# Altium footprint library Actel Footprints.PcbLib: 111 footprints (part 7 of 10)
Each footprint in its own frame and in the unit in brackets; x right, y up, seen from the top. Pads: shape width x height; smd on the part's side, far side on the other; paste and mask are expansions set on the pad; w line width, h text height; cw(c..) or ccw(c..) is an arc to the next point about the centre after c.
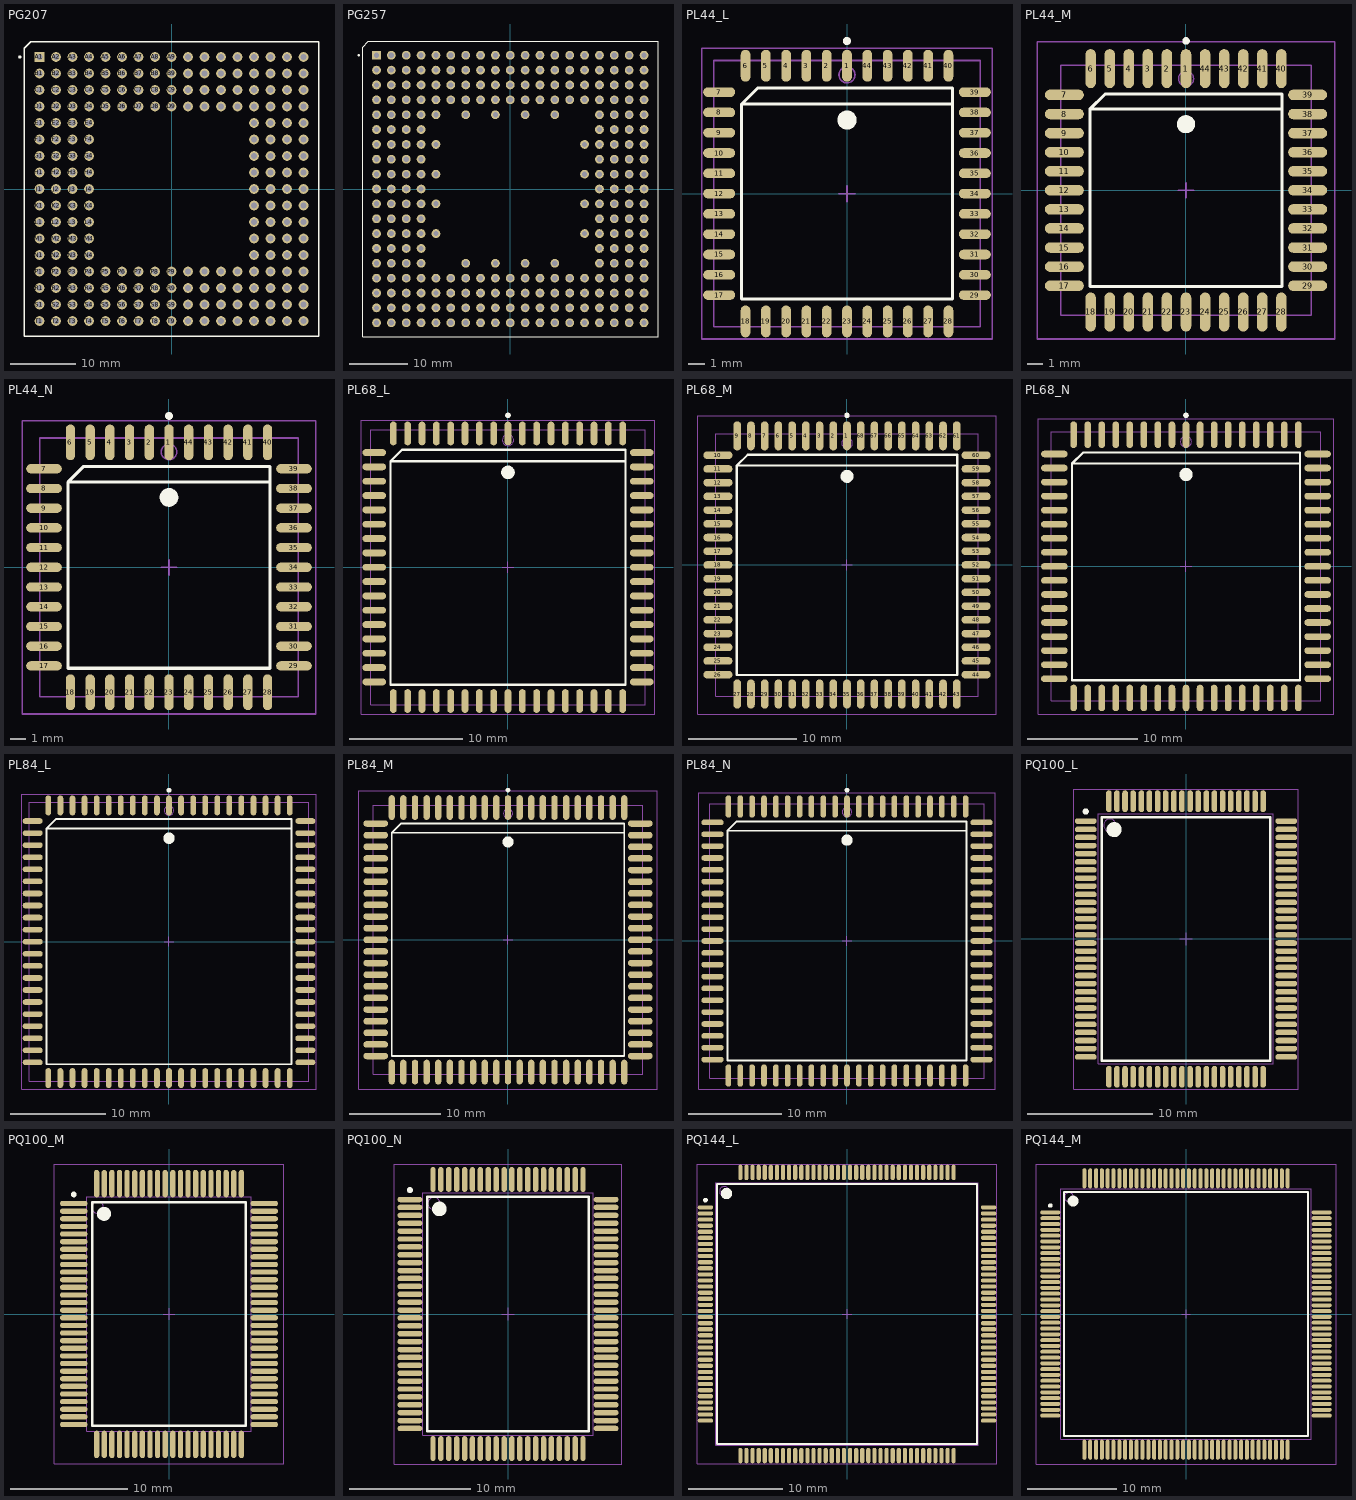
[diagram p6: the footprints below, top view; thin cyan lines are the x and y axes]

## PG207 [mm] "207-Pin Ceramic Pin Grid Array (PG207)"
height 4.6
pads (208):
  rect 1.5x1.5 hole 0.9: A1(-20.32,20.32)
  round 1.5 hole 0.9: A2(-17.78,20.32) A3(-15.24,20.32) A4(-12.7,20.32) A5(-10.16,20.32) A6(-7.62,20.32) A7(-5.08,20.32) A8(-2.54,20.32) A9(0,20.32) A10(2.54,20.32) A11(5.08,20.32) A12(7.62,20.32) A13(10.16,20.32) A14(12.7,20.32) A15(15.24,20.32) A16(17.78,20.32) A17(20.32,20.32) B1(-20.32,17.78) B2(-17.78,17.78) B3(-15.24,17.78) B4(-12.7,17.78) B5(-10.16,17.78) B6(-7.62,17.78) B7(-5.08,17.78) B8(-2.54,17.78) B9(0,17.78) B10(2.54,17.78) B11(5.08,17.78) B12(7.62,17.78) B13(10.16,17.78) B14(12.7,17.78) B15(15.24,17.78) B16(17.78,17.78) B17(20.32,17.78) C1(-20.32,15.24) C2(-17.78,15.24) C3(-15.24,15.24) C4(-12.7,15.24) C5(-10.16,15.24) C6(-7.62,15.24) C7(-5.08,15.24) C8(-2.54,15.24) C9(0,15.24) C10(2.54,15.24) C11(5.08,15.24) C12(7.62,15.24) C13(10.16,15.24) C14(12.7,15.24) C15(15.24,15.24) C16(17.78,15.24) C17(20.32,15.24) D1(-20.32,12.7) D2(-17.78,12.7) D3(-15.24,12.7) D4(-12.7,12.7) D5(-10.16,12.7) D6(-7.62,12.7) D7(-5.08,12.7) D8(-2.54,12.7) D9(0,12.7) D10(2.54,12.7) D11(5.08,12.7) D12(7.62,12.7) D13(10.16,12.7) D14(12.7,12.7) D15(15.24,12.7) D16(17.78,12.7) D17(20.32,12.7) E1(-20.32,10.16) E2(-17.78,10.16) E3(-15.24,10.16) E4(-12.7,10.16) E14(12.7,10.16) E15(15.24,10.16) E16(17.78,10.16) E17(20.32,10.16) F1(-20.32,7.62) F2(-17.78,7.62) F3(-15.24,7.62) F4(-12.7,7.62) F14(12.7,7.62) F15(15.24,7.62) F16(17.78,7.62) F17(20.32,7.62) G1(-20.32,5.08) G2(-17.78,5.08) G3(-15.24,5.08) G4(-12.7,5.08) G14(12.7,5.08) G15(15.24,5.08) G16(17.78,5.08) G17(20.32,5.08) H1(-20.32,2.54) H2(-17.78,2.54) H3(-15.24,2.54) H4(-12.7,2.54) H14(12.7,2.54) H15(15.24,2.54) H16(17.78,2.54) H17(20.32,2.54) J1(-20.32,0) J2(-17.78,0) J3(-15.24,0) J4(-12.7,0) J14(12.7,0) J15(15.24,0) J16(17.78,0) J17(20.32,0) K1(-20.32,-2.54) K2(-17.78,-2.54) K3(-15.24,-2.54) K4(-12.7,-2.54) K14(12.7,-2.54) K15(15.24,-2.54) K16(17.78,-2.54) K17(20.32,-2.54) L1(-20.32,-5.08) L2(-17.78,-5.08) L3(-15.24,-5.08) L4(-12.7,-5.08) L14(12.7,-5.08) L15(15.24,-5.08) L16(17.78,-5.08) L17(20.32,-5.08) M1(-20.32,-7.62) M2(-17.78,-7.62) M3(-15.24,-7.62) M4(-12.7,-7.62) M14(12.7,-7.62) M15(15.24,-7.62) M16(17.78,-7.62) M17(20.32,-7.62) N1(-20.32,-10.16) N2(-17.78,-10.16) N3(-15.24,-10.16) N4(-12.7,-10.16) N14(12.7,-10.16) N15(15.24,-10.16) N16(17.78,-10.16) N17(20.32,-10.16) P1(-20.32,-12.7) P2(-17.78,-12.7) P3(-15.24,-12.7) P4(-12.7,-12.7) P5(-10.16,-12.7) P6(-7.62,-12.7) P7(-5.08,-12.7) P8(-2.54,-12.7) P9(0,-12.7) P10(2.54,-12.7) P11(5.08,-12.7) P12(7.62,-12.7) P13(10.16,-12.7) P14(12.7,-12.7) P15(15.24,-12.7) P16(17.78,-12.7) P17(20.32,-12.7) R1(-20.32,-15.24) R2(-17.78,-15.24) R3(-15.24,-15.24) R4(-12.7,-15.24) R5(-10.16,-15.24) R6(-7.62,-15.24) R7(-5.08,-15.24) R8(-2.54,-15.24) R9(0,-15.24) R10(2.54,-15.24) R11(5.08,-15.24) R12(7.62,-15.24) R13(10.16,-15.24) R14(12.7,-15.24) R15(15.24,-15.24) R16(17.78,-15.24) R17(20.32,-15.24) S1(-20.32,-17.78) S2(-17.78,-17.78) S3(-15.24,-17.78) S4(-12.7,-17.78) S5(-10.16,-17.78) S6(-7.62,-17.78) S7(-5.08,-17.78) S8(-2.54,-17.78) S9(0,-17.78) S10(2.54,-17.78) S11(5.08,-17.78) S12(7.62,-17.78) S13(10.16,-17.78) S14(12.7,-17.78) S15(15.24,-17.78) S16(17.78,-17.78) S17(20.32,-17.78) T1(-20.32,-20.32) T2(-17.78,-20.32) T3(-15.24,-20.32) T4(-12.7,-20.32) T5(-10.16,-20.32) T6(-7.62,-20.32) T7(-5.08,-20.32) T8(-2.54,-20.32) T9(0,-20.32) T10(2.54,-20.32) T11(5.08,-20.32) T12(7.62,-20.32) T13(10.16,-20.32) T14(12.7,-20.32) T15(15.24,-20.32) T16(17.78,-20.32) T17(20.32,-20.32)
Top Overlay:
  circle w0.25: c-23.35,20.32 r0.125
  lines w0.2: -22.7,-22.7 22.7,-22.7 22.7,22.7 -21.7,22.7 -22.7,21.7 -22.7,-22.7

## PG257 [mm] "257-Pin Ceramic Pin Grid Array (PG257)"
height 4.37
pads (257):
  rect 1.5x1.5 hole 0.9: A1(-22.86,22.86)
  round 1.5 hole 0.9: A2(-20.32,22.86) A3(-17.78,22.86) A4(-15.24,22.86) A5(-12.7,22.86) A6(-10.16,22.86) A7(-7.62,22.86) A8(-5.08,22.86) A9(-2.54,22.86) A10(0,22.86) A11(2.54,22.86) A12(5.08,22.86) A13(7.62,22.86) A14(10.16,22.86) A15(12.7,22.86) A16(15.24,22.86) A17(17.78,22.86) A18(20.32,22.86) A19(22.86,22.86) B1(-22.86,20.32) B2(-20.32,20.32) B3(-17.78,20.32) B4(-15.24,20.32) B5(-12.7,20.32) B6(-10.16,20.32) B7(-7.62,20.32) B8(-5.08,20.32) B9(-2.54,20.32) B10(0,20.32) B11(2.54,20.32) B12(5.08,20.32) B13(7.62,20.32) B14(10.16,20.32) B15(12.7,20.32) B16(15.24,20.32) B17(17.78,20.32) B18(20.32,20.32) B19(22.86,20.32) C1(-22.86,17.78) C2(-20.32,17.78) C3(-17.78,17.78) C4(-15.24,17.78) C5(-12.7,17.78) C6(-10.16,17.78) C7(-7.62,17.78) C8(-5.08,17.78) C9(-2.54,17.78) C10(0,17.78) C11(2.54,17.78) C12(5.08,17.78) C13(7.62,17.78) C14(10.16,17.78) C15(12.7,17.78) C16(15.24,17.78) C17(17.78,17.78) C18(20.32,17.78) C19(22.86,17.78) D1(-22.86,15.24) D2(-20.32,15.24) D3(-17.78,15.24) D4(-15.24,15.24) D5(-12.7,15.24) D6(-10.16,15.24) D7(-7.62,15.24) D8(-5.08,15.24) D9(-2.54,15.24) D10(0,15.24) D11(2.54,15.24) D12(5.08,15.24) D13(7.62,15.24) D14(10.16,15.24) D15(12.7,15.24) D16(15.24,15.24) D17(17.78,15.24) D18(20.32,15.24) D19(22.86,15.24) E1(-22.86,12.7) E2(-20.32,12.7) E3(-17.78,12.7) E4(-15.24,12.7) E5(-12.7,12.7) E7(-7.62,12.7) E9(-2.54,12.7) E11(2.54,12.7) E13(7.62,12.7) E16(15.24,12.7) E17(17.78,12.7) E18(20.32,12.7) E19(22.86,12.7) F1(-22.86,10.16) F2(-20.32,10.16) F3(-17.78,10.16) F4(-15.24,10.16) F16(15.24,10.16) F17(17.78,10.16) F18(20.32,10.16) F19(22.86,10.16) G1(-22.86,7.62) G2(-20.32,7.62) G3(-17.78,7.62) G4(-15.24,7.62) G5(-12.7,7.62) G15(12.7,7.62) G16(15.24,7.62) G17(17.78,7.62) G18(20.32,7.62) G19(22.86,7.62) H1(-22.86,5.08) H2(-20.32,5.08) H3(-17.78,5.08) H4(-15.24,5.08) H16(15.24,5.08) H17(17.78,5.08) H18(20.32,5.08) H19(22.86,5.08) J1(-22.86,2.54) J2(-20.32,2.54) J3(-17.78,2.54) J4(-15.24,2.54) J5(-12.7,2.54) J15(12.7,2.54) J16(15.24,2.54) J17(17.78,2.54) J18(20.32,2.54) J19(22.86,2.54) K1(-22.86,0) K2(-20.32,0) K3(-17.78,0) K4(-15.24,0) K16(15.24,0) K17(17.78,0) K18(20.32,0) K19(22.86,0) L1(-22.86,-2.54) L2(-20.32,-2.54) L3(-17.78,-2.54) L4(-15.24,-2.54) L5(-12.7,-2.54) L15(12.7,-2.54) L16(15.24,-2.54) L17(17.78,-2.54) L18(20.32,-2.54) L19(22.86,-2.54) M1(-22.86,-5.08) M2(-20.32,-5.08) M3(-17.78,-5.08) M4(-15.24,-5.08) M16(15.24,-5.08) M17(17.78,-5.08) M18(20.32,-5.08) M19(22.86,-5.08) N1(-22.86,-7.62) N2(-20.32,-7.62) N3(-17.78,-7.62) N4(-15.24,-7.62) N5(-12.7,-7.62) N15(12.7,-7.62) N16(15.24,-7.62) N17(17.78,-7.62) N18(20.32,-7.62) N19(22.86,-7.62) P1(-22.86,-10.16) P2(-20.32,-10.16) P3(-17.78,-10.16) P4(-15.24,-10.16) P16(15.24,-10.16) P17(17.78,-10.16) P18(20.32,-10.16) P19(22.86,-10.16) R1(-22.86,-12.7) R2(-20.32,-12.7) R3(-17.78,-12.7) R4(-15.24,-12.7) R7(-7.62,-12.7) R9(-2.54,-12.7) R11(2.54,-12.7) R13(7.62,-12.7) R16(15.24,-12.7) R17(17.78,-12.7) R18(20.32,-12.7) R19(22.86,-12.7) T1(-22.86,-15.24) T2(-20.32,-15.24) T3(-17.78,-15.24) T4(-15.24,-15.24) T5(-12.7,-15.24) T6(-10.16,-15.24) T7(-7.62,-15.24) T8(-5.08,-15.24) T9(-2.54,-15.24) T10(0,-15.24) T11(2.54,-15.24) T12(5.08,-15.24) T13(7.62,-15.24) T14(10.16,-15.24) T15(12.7,-15.24) T16(15.24,-15.24) T17(17.78,-15.24) T18(20.32,-15.24) T19(22.86,-15.24) V1(-22.86,-17.78) V2(-20.32,-17.78) V3(-17.78,-17.78) V4(-15.24,-17.78) V5(-12.7,-17.78) V6(-10.16,-17.78) V7(-7.62,-17.78) V8(-5.08,-17.78) V9(-2.54,-17.78) V10(0,-17.78) V11(2.54,-17.78) V12(5.08,-17.78) V13(7.62,-17.78) V14(10.16,-17.78) V15(12.7,-17.78) V16(15.24,-17.78) V17(17.78,-17.78) V18(20.32,-17.78) V19(22.86,-17.78) X1(-22.86,-20.32) X2(-20.32,-20.32) X3(-17.78,-20.32) X4(-15.24,-20.32) X5(-12.7,-20.32) X6(-10.16,-20.32) X7(-7.62,-20.32) X8(-5.08,-20.32) X9(-2.54,-20.32) X10(0,-20.32) X11(2.54,-20.32) X12(5.08,-20.32) X13(7.62,-20.32) X14(10.16,-20.32) X15(12.7,-20.32) X16(15.24,-20.32) X17(17.78,-20.32) X18(20.32,-20.32) X19(22.86,-20.32) Y1(-22.86,-22.86) Y2(-20.32,-22.86) Y3(-17.78,-22.86) Y4(-15.24,-22.86) Y5(-12.7,-22.86) Y6(-10.16,-22.86) Y7(-7.62,-22.86) Y8(-5.08,-22.86) Y9(-2.54,-22.86) Y10(0,-22.86) Y11(2.54,-22.86) Y12(5.08,-22.86) Y13(7.62,-22.86) Y14(10.16,-22.86) Y15(12.7,-22.86) Y16(15.24,-22.86) Y17(17.78,-22.86) Y18(20.32,-22.86) Y19(22.86,-22.86)
Top Overlay:
  circle w0.25: c-25.9,22.86 r0.125
  lines w0.2: -25.25,-25.25 -25.25,24.25 -24.25,25.25 25.25,25.25 25.25,-25.25 -25.25,-25.25

## PL44_L [mm] "44-Pin Plastic Leaded Chip Carrier (PL44), IPC High Density"
height 4.58
pads (44):
  oval 0.6x2 smd: 1(0,8) 2(-1.27,8) 3(-2.54,8) 4(-3.81,8) 5(-5.08,8) 6(-6.35,8) 18(-6.35,-8) 19(-5.08,-8) 20(-3.81,-8) 21(-2.54,-8) 22(-1.27,-8) 23(0,-8) 24(1.27,-8) 25(2.54,-8) 26(3.81,-8) 27(5.08,-8) 28(6.35,-8) 40(6.35,8) 41(5.08,8) 42(3.81,8) 43(2.54,8) 44(1.27,8)
  oval 2x0.6 smd: 7(-8,6.35) 8(-8,5.08) 9(-8,3.81) 10(-8,2.54) 11(-8,1.27) 12(-8,0) 13(-8,-1.27) 14(-8,-2.54) 15(-8,-3.81) 16(-8,-5.08) 17(-8,-6.35) 29(8,-6.35) 30(8,-5.08) 31(8,-3.81) 32(8,-2.54) 33(8,-1.27) 34(8,0) 35(8,1.27) 36(8,2.54) 37(8,3.81) 38(8,5.08) 39(8,6.35)
Top Overlay:
  circle w0.25: c0,9.55 r0.125
  circle w0.6: c0,4.6 r0.3
  lines w0.2: 6.6,5.6 -6.6,5.6 ; -6.6,5.6 -5.6,6.6 6.6,6.6 6.6,-6.6 -6.6,-6.6 -6.6,5.6
Mechanical 13:
  circle w0.1: c0,7.43 r0.5
  lines w0.1: -8.33,-8.33 -8.33,8.33 8.33,8.33 8.33,-8.33 -8.33,-8.33
Mechanical 15:
  lines w0.1: -0.5,0 0.5,0 ; 0,-0.5 0,0.5 ; -9.1,-9.1 -9.1,9.1 9.1,9.1 9.1,-9.1 -9.1,-9.1
3D body: height 4.58, standoff 0, extent -8.33,-8.33 8.33,8.33

## PL44_M [mm] "44-Pin Plastic Leaded Chip Carrier (PL44), IPC Low Density"
height 4.58
pads (44):
  oval 0.7x2.6 smd: 1(0,8.1) 2(-1.27,8.1) 3(-2.54,8.1) 4(-3.81,8.1) 5(-5.08,8.1) 6(-6.35,8.1) 18(-6.35,-8.1) 19(-5.08,-8.1) 20(-3.81,-8.1) 21(-2.54,-8.1) 22(-1.27,-8.1) 23(0,-8.1) 24(1.27,-8.1) 25(2.54,-8.1) 26(3.81,-8.1) 27(5.08,-8.1) 28(6.35,-8.1) 40(6.35,8.1) 41(5.08,8.1) 42(3.81,8.1) 43(2.54,8.1) 44(1.27,8.1)
  oval 2.6x0.7 smd: 7(-8.1,6.35) 8(-8.1,5.08) 9(-8.1,3.81) 10(-8.1,2.54) 11(-8.1,1.27) 12(-8.1,0) 13(-8.1,-1.27) 14(-8.1,-2.54) 15(-8.1,-3.81) 16(-8.1,-5.08) 17(-8.1,-6.35) 29(8.1,-6.35) 30(8.1,-5.08) 31(8.1,-3.81) 32(8.1,-2.54) 33(8.1,-1.27) 34(8.1,0) 35(8.1,1.27) 36(8.1,2.54) 37(8.1,3.81) 38(8.1,5.08) 39(8.1,6.35)
Top Overlay:
  circle w0.25: c0,9.95 r0.125
  circle w0.6: c0,4.4 r0.3
  lines w0.2: 6.4,5.4 -6.4,5.4 ; -6.4,5.4 -5.4,6.4 6.4,6.4 6.4,-6.4 -6.4,-6.4 -6.4,5.4
Mechanical 13:
  circle w0.1: c0,7.43 r0.5
  lines w0.1: -8.33,-8.33 -8.33,8.33 8.33,8.33 8.33,-8.33 -8.33,-8.33
Mechanical 15:
  lines w0.1: -0.5,0 0.5,0 ; 0,-0.5 0,0.5 ; -9.9,-9.9 -9.9,9.9 9.9,9.9 9.9,-9.9 -9.9,-9.9
3D body: height 4.58, standoff 0, extent -8.33,-8.33 8.33,8.33

## PL44_N [mm] "44-Pin Plastic Leaded Chip Carrier (PL44), IPC Medium Density"
height 4.58
pads (44):
  oval 0.6x2.3 smd: 1(0,8.05) 2(-1.27,8.05) 3(-2.54,8.05) 4(-3.81,8.05) 5(-5.08,8.05) 6(-6.35,8.05) 18(-6.35,-8.05) 19(-5.08,-8.05) 20(-3.81,-8.05) 21(-2.54,-8.05) 22(-1.27,-8.05) 23(0,-8.05) 24(1.27,-8.05) 25(2.54,-8.05) 26(3.81,-8.05) 27(5.08,-8.05) 28(6.35,-8.05) 40(6.35,8.05) 41(5.08,8.05) 42(3.81,8.05) 43(2.54,8.05) 44(1.27,8.05)
  oval 2.3x0.6 smd: 7(-8.05,6.35) 8(-8.05,5.08) 9(-8.05,3.81) 10(-8.05,2.54) 11(-8.05,1.27) 12(-8.05,0) 13(-8.05,-1.27) 14(-8.05,-2.54) 15(-8.05,-3.81) 16(-8.05,-5.08) 17(-8.05,-6.35) 29(8.05,-6.35) 30(8.05,-5.08) 31(8.05,-3.81) 32(8.05,-2.54) 33(8.05,-1.27) 34(8.05,0) 35(8.05,1.27) 36(8.05,2.54) 37(8.05,3.81) 38(8.05,5.08) 39(8.05,6.35)
Top Overlay:
  circle w0.25: c0,9.75 r0.125
  circle w0.6: c0,4.5 r0.3
  lines w0.2: 6.5,5.5 -6.5,5.5 ; -6.5,5.5 -5.5,6.5 6.5,6.5 6.5,-6.5 -6.5,-6.5 -6.5,5.5
Mechanical 13:
  circle w0.1: c0,7.43 r0.5
  lines w0.1: -8.33,-8.33 -8.33,8.33 8.33,8.33 8.33,-8.33 -8.33,-8.33
Mechanical 15:
  lines w0.1: -0.5,0 0.5,0 ; 0,-0.5 0,0.5 ; -9.45,-9.45 -9.45,9.45 9.45,9.45 9.45,-9.45 -9.45,-9.45
3D body: height 4.58, standoff 0, extent -8.33,-8.33 8.33,8.33

## PL68_L [mm] "68-Pin Plastic Leaded Chip Carrier (PL68), IPC High Density"
height 4.58
pads (68):
  oval 0.6x2.1 smd: 1(0,11.85) 2(-1.27,11.85) 3(-2.54,11.85) 4(-3.81,11.85) 5(-5.08,11.85) 6(-6.35,11.85) 7(-7.62,11.85) 8(-8.89,11.85) 9(-10.16,11.85) 27(-10.16,-11.85) 28(-8.89,-11.85) 29(-7.62,-11.85) 30(-6.35,-11.85) 31(-5.08,-11.85) 32(-3.81,-11.85) 33(-2.54,-11.85) 34(-1.27,-11.85) 35(0,-11.85) 36(1.27,-11.85) 37(2.54,-11.85) 38(3.81,-11.85) 39(5.08,-11.85) 40(6.35,-11.85) 41(7.62,-11.85) 42(8.89,-11.85) 43(10.16,-11.85) 61(10.16,11.85) 62(8.89,11.85) 63(7.62,11.85) 64(6.35,11.85) 65(5.08,11.85) 66(3.81,11.85) 67(2.54,11.85) 68(1.27,11.85)
  oval 2.1x0.6 smd: 10(-11.85,10.16) 11(-11.85,8.89) 12(-11.85,7.62) 13(-11.85,6.35) 14(-11.85,5.08) 15(-11.85,3.81) 16(-11.85,2.54) 17(-11.85,1.27) 18(-11.85,0) 19(-11.85,-1.27) 20(-11.85,-2.54) 21(-11.85,-3.81) 22(-11.85,-5.08) 23(-11.85,-6.35) 24(-11.85,-7.62) 25(-11.85,-8.89) 26(-11.85,-10.16) 44(11.85,-10.16) 45(11.85,-8.89) 46(11.85,-7.62) 47(11.85,-6.35) 48(11.85,-5.08) 49(11.85,-3.81) 50(11.85,-2.54) 51(11.85,-1.27) 52(11.85,0) 53(11.85,1.27) 54(11.85,2.54) 55(11.85,3.81) 56(11.85,5.08) 57(11.85,6.35) 58(11.85,7.62) 59(11.85,8.89) 60(11.85,10.16)
Top Overlay:
  circle w0.25: c0,13.45 r0.125
  circle w0.6: c0,8.4 r0.3
  lines w0.2: 10.4,9.4 -10.4,9.4 ; -10.4,9.4 -9.4,10.4 10.4,10.4 10.4,-10.4 -10.4,-10.4 -10.4,9.4
Mechanical 13:
  circle w0.1: c0,11.265 r0.5
  lines w0.1: -12.165,-12.165 -12.165,12.165 12.165,12.165 12.165,-12.165 -12.165,-12.165
Mechanical 15:
  lines w0.1: -0.5,0 0.5,0 ; 0,-0.5 0,0.5 ; -13,-13 -13,13 13,13 13,-13 -13,-13
3D body: height 4.58, standoff 0, extent -12.165,-12.165 12.165,12.165

## PL68_M [mm] "68-Pin Plastic Leaded Chip Carrier (PL68), IPC Low Density"
height 4.58
pads (68):
  oval 0.7x2.7 smd: 1(0,11.95) 2(-1.27,11.95) 3(-2.54,11.95) 4(-3.81,11.95) 5(-5.08,11.95) 6(-6.35,11.95) 7(-7.62,11.95) 8(-8.89,11.95) 9(-10.16,11.95) 27(-10.16,-11.95) 28(-8.89,-11.95) 29(-7.62,-11.95) 30(-6.35,-11.95) 31(-5.08,-11.95) 32(-3.81,-11.95) 33(-2.54,-11.95) 34(-1.27,-11.95) 35(0,-11.95) 36(1.27,-11.95) 37(2.54,-11.95) 38(3.81,-11.95) 39(5.08,-11.95) 40(6.35,-11.95) 41(7.62,-11.95) 42(8.89,-11.95) 43(10.16,-11.95) 61(10.16,11.95) 62(8.89,11.95) 63(7.62,11.95) 64(6.35,11.95) 65(5.08,11.95) 66(3.81,11.95) 67(2.54,11.95) 68(1.27,11.95)
  oval 2.7x0.7 smd: 10(-11.95,10.16) 11(-11.95,8.89) 12(-11.95,7.62) 13(-11.95,6.35) 14(-11.95,5.08) 15(-11.95,3.81) 16(-11.95,2.54) 17(-11.95,1.27) 18(-11.95,0) 19(-11.95,-1.27) 20(-11.95,-2.54) 21(-11.95,-3.81) 22(-11.95,-5.08) 23(-11.95,-6.35) 24(-11.95,-7.62) 25(-11.95,-8.89) 26(-11.95,-10.16) 44(11.95,-10.16) 45(11.95,-8.89) 46(11.95,-7.62) 47(11.95,-6.35) 48(11.95,-5.08) 49(11.95,-3.81) 50(11.95,-2.54) 51(11.95,-1.27) 52(11.95,0) 53(11.95,1.27) 54(11.95,2.54) 55(11.95,3.81) 56(11.95,5.08) 57(11.95,6.35) 58(11.95,7.62) 59(11.95,8.89) 60(11.95,10.16)
Top Overlay:
  circle w0.25: c0,13.85 r0.125
  circle w0.6: c0,8.2 r0.3
  lines w0.2: 10.2,9.2 -10.2,9.2 ; -10.2,9.2 -9.2,10.2 10.2,10.2 10.2,-10.2 -10.2,-10.2 -10.2,9.2
Mechanical 13:
  circle w0.1: c0,11.265 r0.5
  lines w0.1: -12.165,-12.165 -12.165,12.165 12.165,12.165 12.165,-12.165 -12.165,-12.165
Mechanical 15:
  lines w0.1: -0.5,0 0.5,0 ; 0,-0.5 0,0.5 ; -13.8,-13.8 -13.8,13.8 13.8,13.8 13.8,-13.8 -13.8,-13.8
3D body: height 4.58, standoff 0, extent -12.165,-12.165 12.165,12.165

## PL68_N [mm] "68-Pin Plastic Leaded Chip Carrier (PL68), IPC Medium Density"
height 4.58
pads (68):
  oval 0.6x2.4 smd: 1(0,11.9) 2(-1.27,11.9) 3(-2.54,11.9) 4(-3.81,11.9) 5(-5.08,11.9) 6(-6.35,11.9) 7(-7.62,11.9) 8(-8.89,11.9) 9(-10.16,11.9) 27(-10.16,-11.9) 28(-8.89,-11.9) 29(-7.62,-11.9) 30(-6.35,-11.9) 31(-5.08,-11.9) 32(-3.81,-11.9) 33(-2.54,-11.9) 34(-1.27,-11.9) 35(0,-11.9) 36(1.27,-11.9) 37(2.54,-11.9) 38(3.81,-11.9) 39(5.08,-11.9) 40(6.35,-11.9) 41(7.62,-11.9) 42(8.89,-11.9) 43(10.16,-11.9) 61(10.16,11.9) 62(8.89,11.9) 63(7.62,11.9) 64(6.35,11.9) 65(5.08,11.9) 66(3.81,11.9) 67(2.54,11.9) 68(1.27,11.9)
  oval 2.4x0.6 smd: 10(-11.9,10.16) 11(-11.9,8.89) 12(-11.9,7.62) 13(-11.9,6.35) 14(-11.9,5.08) 15(-11.9,3.81) 16(-11.9,2.54) 17(-11.9,1.27) 18(-11.9,0) 19(-11.9,-1.27) 20(-11.9,-2.54) 21(-11.9,-3.81) 22(-11.9,-5.08) 23(-11.9,-6.35) 24(-11.9,-7.62) 25(-11.9,-8.89) 26(-11.9,-10.16) 44(11.9,-10.16) 45(11.9,-8.89) 46(11.9,-7.62) 47(11.9,-6.35) 48(11.9,-5.08) 49(11.9,-3.81) 50(11.9,-2.54) 51(11.9,-1.27) 52(11.9,0) 53(11.9,1.27) 54(11.9,2.54) 55(11.9,3.81) 56(11.9,5.08) 57(11.9,6.35) 58(11.9,7.62) 59(11.9,8.89) 60(11.9,10.16)
Top Overlay:
  circle w0.25: c0,13.65 r0.125
  circle w0.6: c0,8.3 r0.3
  lines w0.2: 10.3,9.3 -10.3,9.3 ; -10.3,9.3 -9.3,10.3 10.3,10.3 10.3,-10.3 -10.3,-10.3 -10.3,9.3
Mechanical 13:
  circle w0.1: c0,11.265 r0.5
  lines w0.1: -12.165,-12.165 -12.165,12.165 12.165,12.165 12.165,-12.165 -12.165,-12.165
Mechanical 15:
  lines w0.1: -0.5,0 0.5,0 ; 0,-0.5 0,0.5 ; -13.35,-13.35 -13.35,13.35 13.35,13.35 13.35,-13.35 -13.35,-13.35
3D body: height 4.58, standoff 0, extent -12.165,-12.165 12.165,12.165

## PL84_L [mm] "84-Pin Plastic Leaded Chip Carrier (PL84), IPC High Density"
height 4.58
pads (84):
  oval 0.6x2.1 smd: 1(0,14.35) 2(-1.27,14.35) 3(-2.54,14.35) 4(-3.81,14.35) 5(-5.08,14.35) 6(-6.35,14.35) 7(-7.62,14.35) 8(-8.89,14.35) 9(-10.16,14.35) 10(-11.43,14.35) 11(-12.7,14.35) 33(-12.7,-14.35) 34(-11.43,-14.35) 35(-10.16,-14.35) 36(-8.89,-14.35) 37(-7.62,-14.35) 38(-6.35,-14.35) 39(-5.08,-14.35) 40(-3.81,-14.35) 41(-2.54,-14.35) 42(-1.27,-14.35) 43(0,-14.35) 44(1.27,-14.35) 45(2.54,-14.35) 46(3.81,-14.35) 47(5.08,-14.35) 48(6.35,-14.35) 49(7.62,-14.35) 50(8.89,-14.35) 51(10.16,-14.35) 52(11.43,-14.35) 53(12.7,-14.35) 75(12.7,14.35) 76(11.43,14.35) 77(10.16,14.35) 78(8.89,14.35) 79(7.62,14.35) 80(6.35,14.35) 81(5.08,14.35) 82(3.81,14.35) 83(2.54,14.35) 84(1.27,14.35)
  oval 2.1x0.6 smd: 12(-14.35,12.7) 13(-14.35,11.43) 14(-14.35,10.16) 15(-14.35,8.89) 16(-14.35,7.62) 17(-14.35,6.35) 18(-14.35,5.08) 19(-14.35,3.81) 20(-14.35,2.54) 21(-14.35,1.27) 22(-14.35,0) 23(-14.35,-1.27) 24(-14.35,-2.54) 25(-14.35,-3.81) 26(-14.35,-5.08) 27(-14.35,-6.35) 28(-14.35,-7.62) 29(-14.35,-8.89) 30(-14.35,-10.16) 31(-14.35,-11.43) 32(-14.35,-12.7) 54(14.35,-12.7) 55(14.35,-11.43) 56(14.35,-10.16) 57(14.35,-8.89) 58(14.35,-7.62) 59(14.35,-6.35) 60(14.35,-5.08) 61(14.35,-3.81) 62(14.35,-2.54) 63(14.35,-1.27) 64(14.35,0) 65(14.35,1.27) 66(14.35,2.54) 67(14.35,3.81) 68(14.35,5.08) 69(14.35,6.35) 70(14.35,7.62) 71(14.35,8.89) 72(14.35,10.16) 73(14.35,11.43) 74(14.35,12.7)
Top Overlay:
  circle w0.25: c0,15.95 r0.125
  circle w0.6: c0,10.9 r0.3
  lines w0.2: 12.9,11.9 -12.9,11.9 ; -12.9,11.9 -11.9,12.9 12.9,12.9 12.9,-12.9 -12.9,-12.9 -12.9,11.9
Mechanical 13:
  circle w0.1: c0,13.805 r0.5
  lines w0.1: -14.705,-14.705 -14.705,14.705 14.705,14.705 14.705,-14.705 -14.705,-14.705
Mechanical 15:
  lines w0.1: -0.5,0 0.5,0 ; 0,-0.5 0,0.5 ; -15.5,-15.5 -15.5,15.5 15.5,15.5 15.5,-15.5 -15.5,-15.5
3D body: height 4.58, standoff 0, extent -14.705,-14.705 14.705,14.705

## PL84_M [mm] "84-Pin Plastic Leaded Chip Carrier (PL84), IPC Low Density"
height 4.58
pads (84):
  oval 0.7x2.7 smd: 1(0,14.45) 2(-1.27,14.45) 3(-2.54,14.45) 4(-3.81,14.45) 5(-5.08,14.45) 6(-6.35,14.45) 7(-7.62,14.45) 8(-8.89,14.45) 9(-10.16,14.45) 10(-11.43,14.45) 11(-12.7,14.45) 33(-12.7,-14.45) 34(-11.43,-14.45) 35(-10.16,-14.45) 36(-8.89,-14.45) 37(-7.62,-14.45) 38(-6.35,-14.45) 39(-5.08,-14.45) 40(-3.81,-14.45) 41(-2.54,-14.45) 42(-1.27,-14.45) 43(0,-14.45) 44(1.27,-14.45) 45(2.54,-14.45) 46(3.81,-14.45) 47(5.08,-14.45) 48(6.35,-14.45) 49(7.62,-14.45) 50(8.89,-14.45) 51(10.16,-14.45) 52(11.43,-14.45) 53(12.7,-14.45) 75(12.7,14.45) 76(11.43,14.45) 77(10.16,14.45) 78(8.89,14.45) 79(7.62,14.45) 80(6.35,14.45) 81(5.08,14.45) 82(3.81,14.45) 83(2.54,14.45) 84(1.27,14.45)
  oval 2.7x0.7 smd: 12(-14.45,12.7) 13(-14.45,11.43) 14(-14.45,10.16) 15(-14.45,8.89) 16(-14.45,7.62) 17(-14.45,6.35) 18(-14.45,5.08) 19(-14.45,3.81) 20(-14.45,2.54) 21(-14.45,1.27) 22(-14.45,0) 23(-14.45,-1.27) 24(-14.45,-2.54) 25(-14.45,-3.81) 26(-14.45,-5.08) 27(-14.45,-6.35) 28(-14.45,-7.62) 29(-14.45,-8.89) 30(-14.45,-10.16) 31(-14.45,-11.43) 32(-14.45,-12.7) 54(14.45,-12.7) 55(14.45,-11.43) 56(14.45,-10.16) 57(14.45,-8.89) 58(14.45,-7.62) 59(14.45,-6.35) 60(14.45,-5.08) 61(14.45,-3.81) 62(14.45,-2.54) 63(14.45,-1.27) 64(14.45,0) 65(14.45,1.27) 66(14.45,2.54) 67(14.45,3.81) 68(14.45,5.08) 69(14.45,6.35) 70(14.45,7.62) 71(14.45,8.89) 72(14.45,10.16) 73(14.45,11.43) 74(14.45,12.7)
Top Overlay:
  circle w0.25: c0,16.35 r0.125
  circle w0.6: c0,10.7 r0.3
  lines w0.2: 12.7,11.7 -12.7,11.7 ; -12.7,11.7 -11.7,12.7 12.7,12.7 12.7,-12.7 -12.7,-12.7 -12.7,11.7
Mechanical 13:
  circle w0.1: c0,13.805 r0.5
  lines w0.1: -14.705,-14.705 -14.705,14.705 14.705,14.705 14.705,-14.705 -14.705,-14.705
Mechanical 15:
  lines w0.1: -0.5,0 0.5,0 ; 0,-0.5 0,0.5 ; -16.3,-16.3 -16.3,16.3 16.3,16.3 16.3,-16.3 -16.3,-16.3
3D body: height 4.58, standoff 0, extent -14.705,-14.705 14.705,14.705

## PL84_N [mm] "84-Pin Plastic Leaded Chip Carrier (PL84), IPC Medium Density"
height 4.58
pads (84):
  oval 0.6x2.4 smd: 1(0,14.4) 2(-1.27,14.4) 3(-2.54,14.4) 4(-3.81,14.4) 5(-5.08,14.4) 6(-6.35,14.4) 7(-7.62,14.4) 8(-8.89,14.4) 9(-10.16,14.4) 10(-11.43,14.4) 11(-12.7,14.4) 33(-12.7,-14.4) 34(-11.43,-14.4) 35(-10.16,-14.4) 36(-8.89,-14.4) 37(-7.62,-14.4) 38(-6.35,-14.4) 39(-5.08,-14.4) 40(-3.81,-14.4) 41(-2.54,-14.4) 42(-1.27,-14.4) 43(0,-14.4) 44(1.27,-14.4) 45(2.54,-14.4) 46(3.81,-14.4) 47(5.08,-14.4) 48(6.35,-14.4) 49(7.62,-14.4) 50(8.89,-14.4) 51(10.16,-14.4) 52(11.43,-14.4) 53(12.7,-14.4) 75(12.7,14.4) 76(11.43,14.4) 77(10.16,14.4) 78(8.89,14.4) 79(7.62,14.4) 80(6.35,14.4) 81(5.08,14.4) 82(3.81,14.4) 83(2.54,14.4) 84(1.27,14.4)
  oval 2.4x0.6 smd: 12(-14.4,12.7) 13(-14.4,11.43) 14(-14.4,10.16) 15(-14.4,8.89) 16(-14.4,7.62) 17(-14.4,6.35) 18(-14.4,5.08) 19(-14.4,3.81) 20(-14.4,2.54) 21(-14.4,1.27) 22(-14.4,0) 23(-14.4,-1.27) 24(-14.4,-2.54) 25(-14.4,-3.81) 26(-14.4,-5.08) 27(-14.4,-6.35) 28(-14.4,-7.62) 29(-14.4,-8.89) 30(-14.4,-10.16) 31(-14.4,-11.43) 32(-14.4,-12.7) 54(14.4,-12.7) 55(14.4,-11.43) 56(14.4,-10.16) 57(14.4,-8.89) 58(14.4,-7.62) 59(14.4,-6.35) 60(14.4,-5.08) 61(14.4,-3.81) 62(14.4,-2.54) 63(14.4,-1.27) 64(14.4,0) 65(14.4,1.27) 66(14.4,2.54) 67(14.4,3.81) 68(14.4,5.08) 69(14.4,6.35) 70(14.4,7.62) 71(14.4,8.89) 72(14.4,10.16) 73(14.4,11.43) 74(14.4,12.7)
Top Overlay:
  circle w0.25: c0,16.15 r0.125
  circle w0.6: c0,10.8 r0.3
  lines w0.2: 12.8,11.8 -12.8,11.8 ; -12.8,11.8 -11.8,12.8 12.8,12.8 12.8,-12.8 -12.8,-12.8 -12.8,11.8
Mechanical 13:
  circle w0.1: c0,13.805 r0.5
  lines w0.1: -14.705,-14.705 -14.705,14.705 14.705,14.705 14.705,-14.705 -14.705,-14.705
Mechanical 15:
  lines w0.1: -0.5,0 0.5,0 ; 0,-0.5 0,0.5 ; -15.85,-15.85 -15.85,15.85 15.85,15.85 15.85,-15.85 -15.85,-15.85
3D body: height 4.58, standoff 0, extent -14.705,-14.705 14.705,14.705

## PQ100_L [mm] "100-Pin Plastic Quad Flat Pack Rectangular Package (PQ100), IPC High Density"
height 3.4
pads (100):
  oval 1.75x0.45 smd: 1(-8.025,9.425) 2(-8.025,8.775) 3(-8.025,8.125) 4(-8.025,7.475) 5(-8.025,6.825) 6(-8.025,6.175) 7(-8.025,5.525) 8(-8.025,4.875) 9(-8.025,4.225) 10(-8.025,3.575) 11(-8.025,2.925) 12(-8.025,2.275) 13(-8.025,1.625) 14(-8.025,0.975) 15(-8.025,0.325) 16(-8.025,-0.325) 17(-8.025,-0.975) 18(-8.025,-1.625) 19(-8.025,-2.275) 20(-8.025,-2.925) 21(-8.025,-3.575) 22(-8.025,-4.225) 23(-8.025,-4.875) 24(-8.025,-5.525) 25(-8.025,-6.175) 26(-8.025,-6.825) 27(-8.025,-7.475) 28(-8.025,-8.125) 29(-8.025,-8.775) 30(-8.025,-9.425) 51(8.025,-9.425) 52(8.025,-8.775) 53(8.025,-8.125) 54(8.025,-7.475) 55(8.025,-6.825) 56(8.025,-6.175) 57(8.025,-5.525) 58(8.025,-4.875) 59(8.025,-4.225) 60(8.025,-3.575) 61(8.025,-2.925) 62(8.025,-2.275) 63(8.025,-1.625) 64(8.025,-0.975) 65(8.025,-0.325) 66(8.025,0.325) 67(8.025,0.975) 68(8.025,1.625) 69(8.025,2.275) 70(8.025,2.925) 71(8.025,3.575) 72(8.025,4.225) 73(8.025,4.875) 74(8.025,5.525) 75(8.025,6.175) 76(8.025,6.825) 77(8.025,7.475) 78(8.025,8.125) 79(8.025,8.775) 80(8.025,9.425)
  oval 0.45x1.75 smd: 31(-6.175,-11.025) 32(-5.525,-11.025) 33(-4.875,-11.025) 34(-4.225,-11.025) 35(-3.575,-11.025) 36(-2.925,-11.025) 37(-2.275,-11.025) 38(-1.625,-11.025) 39(-0.975,-11.025) 40(-0.325,-11.025) 41(0.325,-11.025) 42(0.975,-11.025) 43(1.625,-11.025) 44(2.275,-11.025) 45(2.925,-11.025) 46(3.575,-11.025) 47(4.225,-11.025) 48(4.875,-11.025) 49(5.525,-11.025) 50(6.175,-11.025) 81(6.175,11.025) 82(5.525,11.025) 83(4.875,11.025) 84(4.225,11.025) 85(3.575,11.025) 86(2.925,11.025) 87(2.275,11.025) 88(1.625,11.025) 89(0.975,11.025) 90(0.325,11.025) 91(-0.325,11.025) 92(-0.975,11.025) 93(-1.625,11.025) 94(-2.275,11.025) 95(-2.925,11.025) 96(-3.575,11.025) 97(-4.225,11.025) 98(-4.875,11.025) 99(-5.525,11.025) 100(-6.175,11.025)
Top Overlay:
  circle w0.6: c-5.75,8.75 r0.3
  circle w0.25: c-8.025,10.2 r0.125
  lines w0.2: -6.75,-9.75 6.75,-9.75 6.75,9.75 -6.75,9.75 -6.75,-9.75
Mechanical 13:
  circle w0.1: c-6.1,9.1 r0.5
  lines w0.1: -7,-10 7,-10 7,10 -7,10 -7,-10
Mechanical 15:
  lines w0.1: -0.5,0 0.5,0 ; 0,-0.5 0,0.5 ; -9,-12 9,-12 9,12 -9,12 -9,-12
3D body: height 3.4, standoff 0, extent -7,-10 7,10

## PQ100_M [mm] "100-Pin Plastic Quad Flat Pack Rectangular Package (PQ100), IPC Low Density"
height 3.4
pads (100):
  oval 2.35x0.45 smd: 1(-8.125,9.425) 2(-8.125,8.775) 3(-8.125,8.125) 4(-8.125,7.475) 5(-8.125,6.825) 6(-8.125,6.175) 7(-8.125,5.525) 8(-8.125,4.875) 9(-8.125,4.225) 10(-8.125,3.575) 11(-8.125,2.925) 12(-8.125,2.275) 13(-8.125,1.625) 14(-8.125,0.975) 15(-8.125,0.325) 16(-8.125,-0.325) 17(-8.125,-0.975) 18(-8.125,-1.625) 19(-8.125,-2.275) 20(-8.125,-2.925) 21(-8.125,-3.575) 22(-8.125,-4.225) 23(-8.125,-4.875) 24(-8.125,-5.525) 25(-8.125,-6.175) 26(-8.125,-6.825) 27(-8.125,-7.475) 28(-8.125,-8.125) 29(-8.125,-8.775) 30(-8.125,-9.425) 51(8.125,-9.425) 52(8.125,-8.775) 53(8.125,-8.125) 54(8.125,-7.475) 55(8.125,-6.825) 56(8.125,-6.175) 57(8.125,-5.525) 58(8.125,-4.875) 59(8.125,-4.225) 60(8.125,-3.575) 61(8.125,-2.925) 62(8.125,-2.275) 63(8.125,-1.625) 64(8.125,-0.975) 65(8.125,-0.325) 66(8.125,0.325) 67(8.125,0.975) 68(8.125,1.625) 69(8.125,2.275) 70(8.125,2.925) 71(8.125,3.575) 72(8.125,4.225) 73(8.125,4.875) 74(8.125,5.525) 75(8.125,6.175) 76(8.125,6.825) 77(8.125,7.475) 78(8.125,8.125) 79(8.125,8.775) 80(8.125,9.425)
  oval 0.45x2.35 smd: 31(-6.175,-11.125) 32(-5.525,-11.125) 33(-4.875,-11.125) 34(-4.225,-11.125) 35(-3.575,-11.125) 36(-2.925,-11.125) 37(-2.275,-11.125) 38(-1.625,-11.125) 39(-0.975,-11.125) 40(-0.325,-11.125) 41(0.325,-11.125) 42(0.975,-11.125) 43(1.625,-11.125) 44(2.275,-11.125) 45(2.925,-11.125) 46(3.575,-11.125) 47(4.225,-11.125) 48(4.875,-11.125) 49(5.525,-11.125) 50(6.175,-11.125) 81(6.175,11.125) 82(5.525,11.125) 83(4.875,11.125) 84(4.225,11.125) 85(3.575,11.125) 86(2.925,11.125) 87(2.275,11.125) 88(1.625,11.125) 89(0.975,11.125) 90(0.325,11.125) 91(-0.325,11.125) 92(-0.975,11.125) 93(-1.625,11.125) 94(-2.275,11.125) 95(-2.925,11.125) 96(-3.575,11.125) 97(-4.225,11.125) 98(-4.875,11.125) 99(-5.525,11.125) 100(-6.175,11.125)
Top Overlay:
  circle w0.6: c-5.55,8.55 r0.3
  circle w0.25: c-8.125,10.2 r0.125
  lines w0.2: -6.55,-9.55 6.55,-9.55 6.55,9.55 -6.55,9.55 -6.55,-9.55
Mechanical 13:
  circle w0.1: c-6.1,9.1 r0.5
  lines w0.1: -7,-10 7,-10 7,10 -7,10 -7,-10
Mechanical 15:
  lines w0.1: -0.5,0 0.5,0 ; 0,-0.5 0,0.5 ; -9.8,-12.8 9.8,-12.8 9.8,12.8 -9.8,12.8 -9.8,-12.8
3D body: height 3.4, standoff 0, extent -7,-10 7,10

## PQ100_N [mm] "100-Pin Plastic Quad Flat Pack Rectangular Package (PQ100), IPC Medium Density"
height 3.4
pads (100):
  oval 2.05x0.45 smd: 1(-8.075,9.425) 2(-8.075,8.775) 3(-8.075,8.125) 4(-8.075,7.475) 5(-8.075,6.825) 6(-8.075,6.175) 7(-8.075,5.525) 8(-8.075,4.875) 9(-8.075,4.225) 10(-8.075,3.575) 11(-8.075,2.925) 12(-8.075,2.275) 13(-8.075,1.625) 14(-8.075,0.975) 15(-8.075,0.325) 16(-8.075,-0.325) 17(-8.075,-0.975) 18(-8.075,-1.625) 19(-8.075,-2.275) 20(-8.075,-2.925) 21(-8.075,-3.575) 22(-8.075,-4.225) 23(-8.075,-4.875) 24(-8.075,-5.525) 25(-8.075,-6.175) 26(-8.075,-6.825) 27(-8.075,-7.475) 28(-8.075,-8.125) 29(-8.075,-8.775) 30(-8.075,-9.425) 51(8.075,-9.425) 52(8.075,-8.775) 53(8.075,-8.125) 54(8.075,-7.475) 55(8.075,-6.825) 56(8.075,-6.175) 57(8.075,-5.525) 58(8.075,-4.875) 59(8.075,-4.225) 60(8.075,-3.575) 61(8.075,-2.925) 62(8.075,-2.275) 63(8.075,-1.625) 64(8.075,-0.975) 65(8.075,-0.325) 66(8.075,0.325) 67(8.075,0.975) 68(8.075,1.625) 69(8.075,2.275) 70(8.075,2.925) 71(8.075,3.575) 72(8.075,4.225) 73(8.075,4.875) 74(8.075,5.525) 75(8.075,6.175) 76(8.075,6.825) 77(8.075,7.475) 78(8.075,8.125) 79(8.075,8.775) 80(8.075,9.425)
  oval 0.45x2.05 smd: 31(-6.175,-11.075) 32(-5.525,-11.075) 33(-4.875,-11.075) 34(-4.225,-11.075) 35(-3.575,-11.075) 36(-2.925,-11.075) 37(-2.275,-11.075) 38(-1.625,-11.075) 39(-0.975,-11.075) 40(-0.325,-11.075) 41(0.325,-11.075) 42(0.975,-11.075) 43(1.625,-11.075) 44(2.275,-11.075) 45(2.925,-11.075) 46(3.575,-11.075) 47(4.225,-11.075) 48(4.875,-11.075) 49(5.525,-11.075) 50(6.175,-11.075) 81(6.175,11.075) 82(5.525,11.075) 83(4.875,11.075) 84(4.225,11.075) 85(3.575,11.075) 86(2.925,11.075) 87(2.275,11.075) 88(1.625,11.075) 89(0.975,11.075) 90(0.325,11.075) 91(-0.325,11.075) 92(-0.975,11.075) 93(-1.625,11.075) 94(-2.275,11.075) 95(-2.925,11.075) 96(-3.575,11.075) 97(-4.225,11.075) 98(-4.875,11.075) 99(-5.525,11.075) 100(-6.175,11.075)
Top Overlay:
  circle w0.6: c-5.65,8.65 r0.3
  circle w0.25: c-8.075,10.2 r0.125
  lines w0.2: -6.65,-9.65 6.65,-9.65 6.65,9.65 -6.65,9.65 -6.65,-9.65
Mechanical 13:
  circle w0.1: c-6.1,9.1 r0.5
  lines w0.1: -7,-10 7,-10 7,10 -7,10 -7,-10
Mechanical 15:
  lines w0.1: -0.5,0 0.5,0 ; 0,-0.5 0,0.5 ; -9.35,-12.35 9.35,-12.35 9.35,12.35 -9.35,12.35 -9.35,-12.35
3D body: height 3.4, standoff 0, extent -7,-10 7,10

## PQ144_L [mm] "144-Pin Plastic Quad Flat Pack (PQ144), IPC High Density"
height 4.1
pads (144):
  oval 1.65x0.45 smd: 1(-15.1,11.375) 2(-15.1,10.725) 3(-15.1,10.075) 4(-15.1,9.425) 5(-15.1,8.775) 6(-15.1,8.125) 7(-15.1,7.475) 8(-15.1,6.825) 9(-15.1,6.175) 10(-15.1,5.525) 11(-15.1,4.875) 12(-15.1,4.225) 13(-15.1,3.575) 14(-15.1,2.925) 15(-15.1,2.275) 16(-15.1,1.625) 17(-15.1,0.975) 18(-15.1,0.325) 19(-15.1,-0.325) 20(-15.1,-0.975) 21(-15.1,-1.625) 22(-15.1,-2.275) 23(-15.1,-2.925) 24(-15.1,-3.575) 25(-15.1,-4.225) 26(-15.1,-4.875) 27(-15.1,-5.525) 28(-15.1,-6.175) 29(-15.1,-6.825) 30(-15.1,-7.475) 31(-15.1,-8.125) 32(-15.1,-8.775) 33(-15.1,-9.425) 34(-15.1,-10.075) 35(-15.1,-10.725) 36(-15.1,-11.375) 73(15.1,-11.375) 74(15.1,-10.725) 75(15.1,-10.075) 76(15.1,-9.425) 77(15.1,-8.775) 78(15.1,-8.125) 79(15.1,-7.475) 80(15.1,-6.825) 81(15.1,-6.175) 82(15.1,-5.525) 83(15.1,-4.875) 84(15.1,-4.225) 85(15.1,-3.575) 86(15.1,-2.925) 87(15.1,-2.275) 88(15.1,-1.625) 89(15.1,-0.975) 90(15.1,-0.325) 91(15.1,0.325) 92(15.1,0.975) 93(15.1,1.625) 94(15.1,2.275) 95(15.1,2.925) 96(15.1,3.575) 97(15.1,4.225) 98(15.1,4.875) 99(15.1,5.525) 100(15.1,6.175) 101(15.1,6.825) 102(15.1,7.475) 103(15.1,8.125) 104(15.1,8.775) 105(15.1,9.425) 106(15.1,10.075) 107(15.1,10.725) 108(15.1,11.375)
  oval 0.45x1.65 smd: 37(-11.375,-15.1) 38(-10.725,-15.1) 39(-10.075,-15.1) 40(-9.425,-15.1) 41(-8.775,-15.1) 42(-8.125,-15.1) 43(-7.475,-15.1) 44(-6.825,-15.1) 45(-6.175,-15.1) 46(-5.525,-15.1) 47(-4.875,-15.1) 48(-4.225,-15.1) 49(-3.575,-15.1) 50(-2.925,-15.1) 51(-2.275,-15.1) 52(-1.625,-15.1) 53(-0.975,-15.1) 54(-0.325,-15.1) 55(0.325,-15.1) 56(0.975,-15.1) 57(1.625,-15.1) 58(2.275,-15.1) 59(2.925,-15.1) 60(3.575,-15.1) 61(4.225,-15.1) 62(4.875,-15.1) 63(5.525,-15.1) 64(6.175,-15.1) 65(6.825,-15.1) 66(7.475,-15.1) 67(8.125,-15.1) 68(8.775,-15.1) 69(9.425,-15.1) 70(10.075,-15.1) 71(10.725,-15.1) 72(11.375,-15.1) 109(11.375,15.1) 110(10.725,15.1) 111(10.075,15.1) 112(9.425,15.1) 113(8.775,15.1) 114(8.125,15.1) 115(7.475,15.1) 116(6.825,15.1) 117(6.175,15.1) 118(5.525,15.1) 119(4.875,15.1) 120(4.225,15.1) 121(3.575,15.1) 122(2.925,15.1) 123(2.275,15.1) 124(1.625,15.1) 125(0.975,15.1) 126(0.325,15.1) 127(-0.325,15.1) 128(-0.975,15.1) 129(-1.625,15.1) 130(-2.275,15.1) 131(-2.925,15.1) 132(-3.575,15.1) 133(-4.225,15.1) 134(-4.875,15.1) 135(-5.525,15.1) 136(-6.175,15.1) 137(-6.825,15.1) 138(-7.475,15.1) 139(-8.125,15.1) 140(-8.775,15.1) 141(-9.425,15.1) 142(-10.075,15.1) 143(-10.725,15.1) 144(-11.375,15.1)
Top Overlay:
  circle w0.6: c-12.85,12.85 r0.3
  circle w0.25: c-15.1,12.15 r0.125
  lines w0.2: -13.85,-13.85 13.85,-13.85 13.85,13.85 -13.85,13.85 -13.85,-13.85
Mechanical 13:
  circle w0.1: c-13.1,13.1 r0.5
  lines w0.1: -14,-14 14,-14 14,14 -14,14 -14,-14
Mechanical 15:
  lines w0.1: -0.5,0 0.5,0 ; 0,-0.5 0,0.5 ; -16,-16 16,-16 16,16 -16,16 -16,-16
3D body: height 4.1, standoff 0, extent -14,-14 14,14

## PQ144_M [mm] "144-Pin Plastic Quad Flat Pack (PQ144), IPC Low Density"
height 4.1
pads (144):
  oval 2.25x0.45 smd: 1(-15.2,11.375) 2(-15.2,10.725) 3(-15.2,10.075) 4(-15.2,9.425) 5(-15.2,8.775) 6(-15.2,8.125) 7(-15.2,7.475) 8(-15.2,6.825) 9(-15.2,6.175) 10(-15.2,5.525) 11(-15.2,4.875) 12(-15.2,4.225) 13(-15.2,3.575) 14(-15.2,2.925) 15(-15.2,2.275) 16(-15.2,1.625) 17(-15.2,0.975) 18(-15.2,0.325) 19(-15.2,-0.325) 20(-15.2,-0.975) 21(-15.2,-1.625) 22(-15.2,-2.275) 23(-15.2,-2.925) 24(-15.2,-3.575) 25(-15.2,-4.225) 26(-15.2,-4.875) 27(-15.2,-5.525) 28(-15.2,-6.175) 29(-15.2,-6.825) 30(-15.2,-7.475) 31(-15.2,-8.125) 32(-15.2,-8.775) 33(-15.2,-9.425) 34(-15.2,-10.075) 35(-15.2,-10.725) 36(-15.2,-11.375) 73(15.2,-11.375) 74(15.2,-10.725) 75(15.2,-10.075) 76(15.2,-9.425) 77(15.2,-8.775) 78(15.2,-8.125) 79(15.2,-7.475) 80(15.2,-6.825) 81(15.2,-6.175) 82(15.2,-5.525) 83(15.2,-4.875) 84(15.2,-4.225) 85(15.2,-3.575) 86(15.2,-2.925) 87(15.2,-2.275) 88(15.2,-1.625) 89(15.2,-0.975) 90(15.2,-0.325) 91(15.2,0.325) 92(15.2,0.975) 93(15.2,1.625) 94(15.2,2.275) 95(15.2,2.925) 96(15.2,3.575) 97(15.2,4.225) 98(15.2,4.875) 99(15.2,5.525) 100(15.2,6.175) 101(15.2,6.825) 102(15.2,7.475) 103(15.2,8.125) 104(15.2,8.775) 105(15.2,9.425) 106(15.2,10.075) 107(15.2,10.725) 108(15.2,11.375)
  oval 0.45x2.25 smd: 37(-11.375,-15.2) 38(-10.725,-15.2) 39(-10.075,-15.2) 40(-9.425,-15.2) 41(-8.775,-15.2) 42(-8.125,-15.2) 43(-7.475,-15.2) 44(-6.825,-15.2) 45(-6.175,-15.2) 46(-5.525,-15.2) 47(-4.875,-15.2) 48(-4.225,-15.2) 49(-3.575,-15.2) 50(-2.925,-15.2) 51(-2.275,-15.2) 52(-1.625,-15.2) 53(-0.975,-15.2) 54(-0.325,-15.2) 55(0.325,-15.2) 56(0.975,-15.2) 57(1.625,-15.2) 58(2.275,-15.2) 59(2.925,-15.2) 60(3.575,-15.2) 61(4.225,-15.2) 62(4.875,-15.2) 63(5.525,-15.2) 64(6.175,-15.2) 65(6.825,-15.2) 66(7.475,-15.2) 67(8.125,-15.2) 68(8.775,-15.2) 69(9.425,-15.2) 70(10.075,-15.2) 71(10.725,-15.2) 72(11.375,-15.2) 109(11.375,15.2) 110(10.725,15.2) 111(10.075,15.2) 112(9.425,15.2) 113(8.775,15.2) 114(8.125,15.2) 115(7.475,15.2) 116(6.825,15.2) 117(6.175,15.2) 118(5.525,15.2) 119(4.875,15.2) 120(4.225,15.2) 121(3.575,15.2) 122(2.925,15.2) 123(2.275,15.2) 124(1.625,15.2) 125(0.975,15.2) 126(0.325,15.2) 127(-0.325,15.2) 128(-0.975,15.2) 129(-1.625,15.2) 130(-2.275,15.2) 131(-2.925,15.2) 132(-3.575,15.2) 133(-4.225,15.2) 134(-4.875,15.2) 135(-5.525,15.2) 136(-6.175,15.2) 137(-6.825,15.2) 138(-7.475,15.2) 139(-8.125,15.2) 140(-8.775,15.2) 141(-9.425,15.2) 142(-10.075,15.2) 143(-10.725,15.2) 144(-11.375,15.2)
Top Overlay:
  circle w0.6: c-12.65,12.65 r0.3
  circle w0.25: c-15.2,12.15 r0.125
  lines w0.2: -13.65,-13.65 13.65,-13.65 13.65,13.65 -13.65,13.65 -13.65,-13.65
Mechanical 13:
  circle w0.1: c-13.1,13.1 r0.5
  lines w0.1: -14,-14 14,-14 14,14 -14,14 -14,-14
Mechanical 15:
  lines w0.1: -0.5,0 0.5,0 ; 0,-0.5 0,0.5 ; -16.8,-16.8 16.8,-16.8 16.8,16.8 -16.8,16.8 -16.8,-16.8
3D body: height 4.1, standoff 0, extent -14,-14 14,14